# Altium footprint library 686 1xx 148 922.PcbLib: 15 footprints
Each footprint in its own frame and in the unit in brackets; x right, y up, seen from the top. Pads: shape width x height; smd on the part's side, far side on the other; paste and mask are expansions set on the pad; w line width, h text height; cw(c..) or ccw(c..) is an arc to the next point about the centre after c.
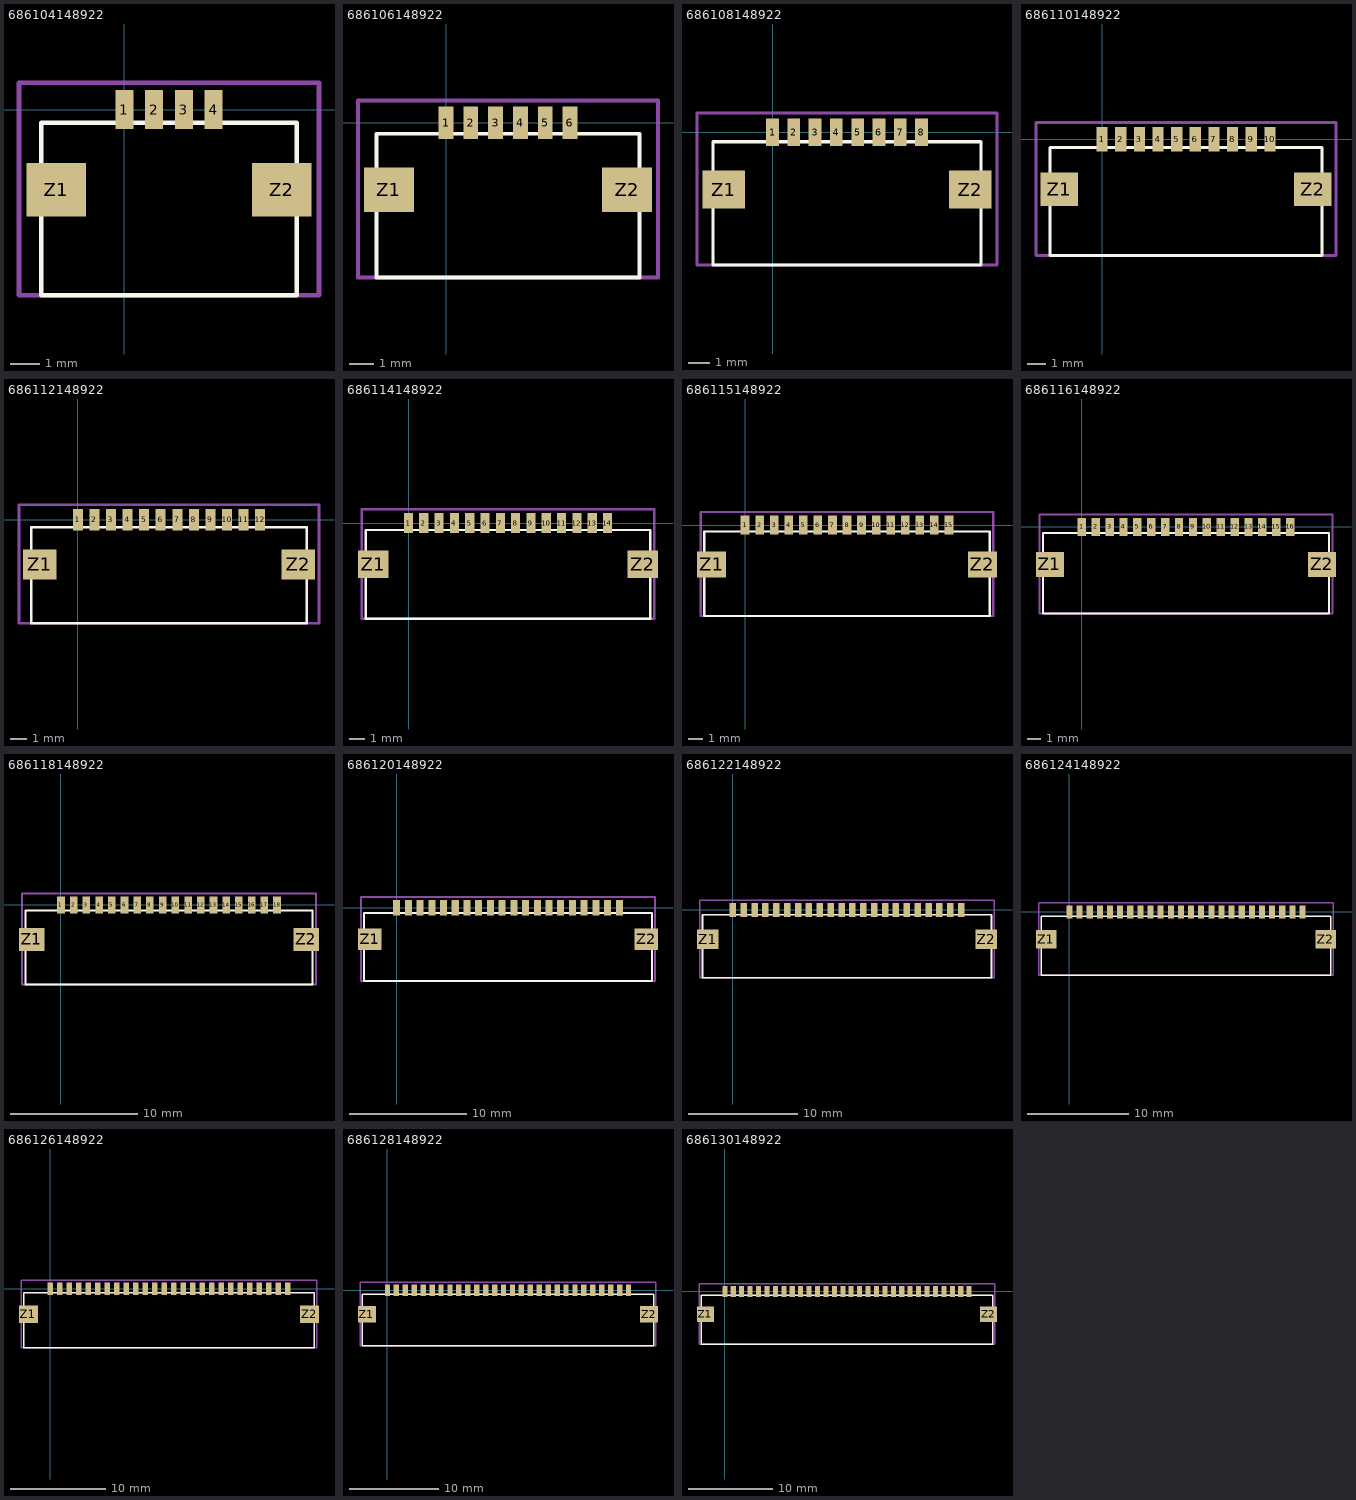
[diagram p0: the footprints below, top view; thin cyan lines are the x and y axes]

## 686104148922 [mm] "WR-FPC 1mm SMT Horiz. Bot. Contact Hinge type WR-FPC 1mm 04pins Hinge type SMT Horizontal Bottom Contact"
height 2.2
pads (6):
  rect 0.6x1.3 smd: 1(0,0) 2(1,0) 3(2,0) 4(3,0)
  rect 2x1.8 smd: Z1(-2.3,-2.7) Z2(5.3,-2.7)
Top Overlay:
  lines w0.152: -2.8,-6.25 -2.8,-0.45 5.8,-0.45 5.8,-6.25 -2.8,-6.25
Mechanical 15:
  lines w0.152: -3.55,-6.25 6.55,-6.25 6.55,0.9 -3.55,0.9 -3.55,-6.25
3D body: height 2.25, standoff 0, extent -2.8,-6.25 5.8,0.25

## 686106148922 [mm] "WR-FPC 1mm SMT Horiz. Bot. Contact Hinge type WR-FPC 1mm 06pins Hinge type SMT Horizontal Bottom Contact"
height 2.2
pads (8):
  rect 0.6x1.3 smd: 1(0,0) 2(1,0) 3(2,0) 4(3,0) 5(4,0) 6(5,0)
  rect 2x1.8 smd: Z1(-2.3,-2.7) Z2(7.3,-2.7)
Top Overlay:
  lines w0.152: -2.8,-6.25 -2.8,-0.45 7.8,-0.45 7.8,-6.25 -2.8,-6.25
Mechanical 15:
  lines w0.152: -3.55,-6.25 -3.55,0.9 8.55,0.9 8.55,-6.25 -3.55,-6.25
3D body: height 2.25, standoff 0, extent -2.8,-6.25 7.8,0.25

## 686108148922 [mm] "WR-FPC 1mm SMT Horiz. Bot. Contact Hinge type WR-FPC 1mm 08pins Hinge type SMT Horizontal Bottom Contact"
height 2.2
pads (10):
  rect 0.6x1.3 smd: 1(0,0) 2(1,0) 3(2,0) 4(3,0) 5(4,0) 6(5,0) 7(6,0) 8(7,0)
  rect 2x1.8 smd: Z1(-2.3,-2.7) Z2(9.3,-2.7)
Top Overlay:
  lines w0.152: -2.8,-6.25 9.8,-6.25 9.8,-0.45 -2.8,-0.45 -2.8,-6.25
Mechanical 15:
  lines w0.152: -3.55,-6.25 10.55,-6.25 10.55,0.9 -3.55,0.9 -3.55,-6.25
3D body: height 2.25, standoff 0, extent -2.8,-6.25 9.8,0.25

## 686110148922 [mm] "WR-FPC 1mm SMT Horiz. Bot. Contact Hinge type WR-FPC 1mm 10pins Hinge type SMT Horizontal Bottom Contact"
height 2.2
pads (12):
  rect 0.6x1.3 smd: 1(0,0) 2(1,0) 3(2,0) 4(3,0) 5(4,0) 6(5,0) 7(6,0) 8(7,0) 9(8,0) 10(9,0)
  rect 2x1.8 smd: Z1(-2.3,-2.7) Z2(11.3,-2.7)
Top Overlay:
  lines w0.152: -2.8,-6.25 -2.8,-0.45 11.8,-0.45 11.8,-6.25 -2.8,-6.25
Mechanical 15:
  lines w0.152: -3.55,-6.25 12.55,-6.25 12.55,0.9 -3.55,0.9 -3.55,-6.25
3D body: height 2.25, standoff 0, extent -2.8,-6.25 11.8,0.25

## 686112148922 [mm] "WR-FPC 1mm SMT Horiz. Bot. Contact Hinge type WR-FPC 1mm 12pins Hinge type SMT Horizontal Bottom Contact"
height 2.2
pads (14):
  rect 0.6x1.3 smd: 1(0,0) 2(1,0) 3(2,0) 4(3,0) 5(4,0) 6(5,0) 7(6,0) 8(7,0) 9(8,0) 10(9,0) 11(10,0) 12(11,0)
  rect 2x1.8 smd: Z1(-2.3,-2.7) Z2(13.3,-2.7)
Top Overlay:
  lines w0.152: -2.8,-6.25 -2.8,-0.45 13.8,-0.45 13.8,-6.25 -2.8,-6.25
Mechanical 15:
  lines w0.152: 14.55,-6.25 14.55,0.9 ; 14.55,-6.25 -3.55,-6.25 -3.55,0.9 14.55,0.9 ; 14.55,-6.25 14.55,0.9
3D body: height 2.25, standoff 0, extent -2.8,-6.25 13.8,0.25

## 686114148922 [mm] "WR-FPC 1mm SMT Horiz. Bot. Contact Hinge type WR-FPC 1mm 14pins Hinge type SMT Horizontal Bottom Contact"
height 2.2
pads (16):
  rect 0.6x1.3 smd: 1(0,0) 2(1,0) 3(2,0) 4(3,0) 5(4,0) 6(5,0) 7(6,0) 8(7,0) 9(8,0) 10(9,0) 11(10,0) 12(11,0) 13(12,0) 14(13,0)
  rect 2x1.8 smd: Z1(-2.3,-2.7) Z2(15.3,-2.7)
Top Overlay:
  lines w0.152: -2.8,-6.25 -2.8,-0.45 15.8,-0.45 15.8,-6.25 -2.8,-6.25
Mechanical 15:
  lines w0.152: -3.05,-6.25 -3.05,0.9 16.05,0.9 16.05,-6.25 -3.05,-6.25
3D body: height 2.25, standoff 0, extent -2.8,-6.25 15.8,0.25

## 686115148922 [mm] "WR-FPC 1mm SMT Horiz. Bot. Contact Hinge type WR-FPC 1mm 15pins Hinge type SMT Horizontal Bottom Contact"
height 2.2
pads (17):
  rect 0.6x1.3 smd: 1(0,0) 2(1,0) 3(2,0) 4(3,0) 5(4,0) 6(5,0) 7(6,0) 8(7,0) 9(8,0) 10(9,0) 11(10,0) 12(11,0) 13(12,0) 14(13,0) 15(14,0)
  rect 2x1.8 smd: Z1(-2.3,-2.7) Z2(16.3,-2.7)
Top Overlay:
  lines w0.152: -2.8,-6.25 -2.8,-0.45 16.8,-0.45 16.8,-6.25 -2.8,-6.25
Mechanical 15:
  lines w0.152: -3.05,-6.25 -3.05,0.9 17.05,0.9 17.05,-6.25 -3.05,-6.25
3D body: height 2.25, standoff 0, extent -2.8,-6.25 16.8,0.25

## 686116148922 [mm] "WR-FPC 1mm SMT Horiz. Bot. Contact Hinge type WR-FPC 1mm 16pins Hinge type SMT Horizontal Bottom Contact"
height 2.2
pads (18):
  rect 0.6x1.3 smd: 1(0,0) 2(1,0) 3(2,0) 4(3,0) 5(4,0) 6(5,0) 7(6,0) 8(7,0) 9(8,0) 10(9,0) 11(10,0) 12(11,0) 13(12,0) 14(13,0) 15(14,0) 16(15,0)
  rect 2x1.8 smd: Z1(-2.3,-2.7) Z2(17.3,-2.7)
Top Overlay:
  lines w0.152: -2.8,-6.25 17.8,-6.25 17.8,-0.45 -2.8,-0.45 -2.8,-6.25
Mechanical 15:
  lines w0.152: -3.05,-6.25 18.05,-6.25 18.05,0.9 -3.05,0.9 -3.05,-6.25
3D body: height 2.25, standoff 0, extent -2.8,-6.25 17.8,0.25

## 686118148922 [mm] "WR-FPC 1mm SMT Horiz. Bot. Contact Hinge type WR-FPC 1mm 18pins Hinge type SMT Horizontal Bottom Contact"
height 2.2
pads (20):
  rect 0.6x1.3 smd: 1(0,0) 2(1,0) 3(2,0) 4(3,0) 5(4,0) 6(5,0) 7(6,0) 8(7,0) 9(8,0) 10(9,0) 11(10,0) 12(11,0) 13(12,0) 14(13,0) 15(14,0) 16(15,0) 17(16,0) 18(17,0)
  rect 2x1.8 smd: Z1(-2.3,-2.7) Z2(19.3,-2.7)
Top Overlay:
  lines w0.152: -2.8,-6.25 19.8,-6.25 19.8,-0.45 -2.8,-0.45 -2.8,-6.25
Mechanical 15:
  lines w0.152: -3.05,-6.25 20.05,-6.25 20.05,0.9 -3.05,0.9 -3.05,-6.25
3D body: height 2.25, standoff 0, extent -2.8,-6.25 19.8,0.25

## 686120148922 [mm] "WR-FPC 1mm SMT Horiz. Bot. Contact Hinge type WR-FPC 1mm 20pins Hinge type SMT Horizontal Bottom Contact"
height 2.2
pads (22):
  rect 0.6x1.3 smd: 1(0,0) 2(1,0) 3(2,0) 4(3,0) 5(4,0) 6(5,0) 7(6,0) 8(7,0) 9(8,0) 10(9,0) 11(10,0) 12(11,0) 13(12,0) 14(13,0) 15(14,0) 16(15,0) 17(16,0) 18(17,0) 19(18,0) 20(19,0)
  rect 2x1.8 smd: Z1(-2.3,-2.7) Z2(21.3,-2.7)
Top Overlay:
  lines w0.152: -2.8,-6.25 21.8,-6.25 21.8,-0.45 -2.8,-0.45 -2.8,-6.25
Mechanical 15:
  lines w0.152: -3.05,-6.25 22.05,-6.25 22.05,0.9 -3.05,0.9 -3.05,-6.25
3D body: height 2.25, standoff 0, extent -2.8,-6.25 21.8,0.25

## 686122148922 [mm] "WR-FPC 1mm SMT Horiz. Bot. Contact Hinge type WR-FPC 1mm 22pins Hinge type SMT Horizontal Bottom Contact"
height 2.2
pads (24):
  rect 0.6x1.3 smd: 1(0,0) 2(1,0) 3(2,0) 4(3,0) 5(4,0) 6(5,0) 7(6,0) 8(7,0) 9(8,0) 10(9,0) 11(10,0) 12(11,0) 13(12,0) 14(13,0) 15(14,0) 16(15,0) 17(16,0) 18(17,0) 19(18,0) 20(19,0) 21(20,0) 22(21,0)
  rect 2x1.8 smd: Z1(-2.3,-2.7) Z2(23.3,-2.7)
Top Overlay:
  lines w0.152: -2.8,-6.25 23.8,-6.25 23.8,-0.45 -2.8,-0.45 -2.8,-6.25
Mechanical 15:
  lines w0.152: -3.05,-6.25 24.05,-6.25 24.05,0.9 -3.05,0.9 -3.05,-6.25
3D body: height 2.25, standoff 0, extent -2.8,-6.25 23.8,0.25

## 686124148922 [mm] "WR-FPC 1mm SMT Horiz. Bot. Contact Hinge type WR-FPC 1mm 24pins Hinge type SMT Horizontal Bottom Contact"
height 2.2
pads (26):
  rect 0.6x1.3 smd: 1(0,0) 2(1,0) 3(2,0) 4(3,0) 5(4,0) 6(5,0) 7(6,0) 8(7,0) 9(8,0) 10(9,0) 11(10,0) 12(11,0) 13(12,0) 14(13,0) 15(14,0) 16(15,0) 17(16,0) 18(17,0) 19(18,0) 20(19,0) 21(20,0) 22(21,0) 23(22,0) 24(23,0)
  rect 2x1.8 smd: Z1(-2.3,-2.7) Z2(25.3,-2.7)
Top Overlay:
  lines w0.152: -2.8,-6.25 25.8,-6.25 25.8,-0.45 -2.8,-0.45 -2.8,-6.25
Mechanical 15:
  lines w0.152: -3.05,-6.25 26.05,-6.25 26.05,0.9 -3.05,0.9 -3.05,-6.25
3D body: height 2.25, standoff 0, extent -2.8,-6.25 25.8,0.25

## 686126148922 [mm] "WR-FPC 1mm SMT Horiz. Bot. Contact Hinge type WR-FPC 1mm 26pins Hinge type SMT Horizontal Bottom Contact"
height 2.2
pads (28):
  rect 0.6x1.3 smd: 1(0,0) 2(1,0) 3(2,0) 4(3,0) 5(4,0) 6(5,0) 7(6,0) 8(7,0) 9(8,0) 10(9,0) 11(10,0) 12(11,0) 13(12,0) 14(13,0) 15(14,0) 16(15,0) 17(16,0) 18(17,0) 19(18,0) 20(19,0) 21(20,0) 22(21,0) 23(22,0) 24(23,0) 25(24,0) 26(25,0)
  rect 2x1.8 smd: Z1(-2.3,-2.7) Z2(27.3,-2.7)
Top Overlay:
  lines w0.152: -2.8,-6.25 27.8,-6.25 27.8,-0.45 -2.8,-0.45 -2.8,-6.25
Mechanical 15:
  lines w0.152: -3.05,-6.25 28.05,-6.25 28.05,0.9 -3.05,0.9 -3.05,-6.25
3D body: height 2.25, standoff 0, extent -2.8,-6.25 27.8,0.25

## 686128148922 [mm] "WR-FPC 1mm SMT Horiz. Bot. Contact Hinge type WR-FPC 1mm 28pins Hinge type SMT Horizontal Bottom Contact"
height 2.2
pads (30):
  rect 0.6x1.3 smd: 1(0,0) 2(1,0) 3(2,0) 4(3,0) 5(4,0) 6(5,0) 7(6,0) 8(7,0) 9(8,0) 10(9,0) 11(10,0) 12(11,0) 13(12,0) 14(13,0) 15(14,0) 16(15,0) 17(16,0) 18(17,0) 19(18,0) 20(19,0) 21(20,0) 22(21,0) 23(22,0) 24(23,0) 25(24,0) 26(25,0) 27(26,0) 28(27,0)
  rect 2x1.8 smd: Z1(-2.3,-2.7) Z2(29.3,-2.7)
Top Overlay:
  lines w0.152: -2.8,-6.25 29.8,-6.25 29.8,-0.45 -2.8,-0.45 -2.8,-6.25
Mechanical 15:
  lines w0.152: -3.05,-6.25 30.05,-6.25 30.05,0.9 -3.05,0.9 -3.05,-6.25
3D body: height 2.25, standoff 0, extent -2.8,-6.25 29.8,0.25

## 686130148922 [mm] "WR-FPC 1mm SMT Horiz. Bot. Contact Hinge type WR-FPC 1mm 30pins Hinge type SMT Horizontal Bottom Contact"
height 2.2
pads (32):
  rect 0.6x1.3 smd: 1(0,0) 2(1,0) 3(2,0) 4(3,0) 5(4,0) 6(5,0) 7(6,0) 8(7,0) 9(8,0) 10(9,0) 11(10,0) 12(11,0) 13(12,0) 14(13,0) 15(14,0) 16(15,0) 17(16,0) 18(17,0) 19(18,0) 20(19,0) 21(20,0) 22(21,0) 23(22,0) 24(23,0) 25(24,0) 26(25,0) 27(26,0) 28(27,0) 29(28,0) 30(29,0)
  rect 2x1.8 smd: Z1(-2.3,-2.7) Z2(31.3,-2.7)
Top Overlay:
  lines w0.152: -2.8,-6.25 31.8,-6.25 31.8,-0.45 -2.8,-0.45 -2.8,-6.25
Mechanical 15:
  lines w0.152: -3.05,-6.25 32.05,-6.25 32.05,0.9 -3.05,0.9 -3.05,-6.25
3D body: height 2.25, standoff 0, extent -2.8,-6.25 31.8,0.25